# Altium footprint library CAP_CAN_TH_1p5mmLS4mmD.PcbLib: 1 footprints
Each footprint in its own frame and in the unit in brackets; x right, y up, seen from the top. Pads: shape width x height; smd on the part's side, far side on the other; paste and mask are expansions set on the pad; w line width, h text height; cw(c..) or ccw(c..) is an arc to the next point about the centre after c.
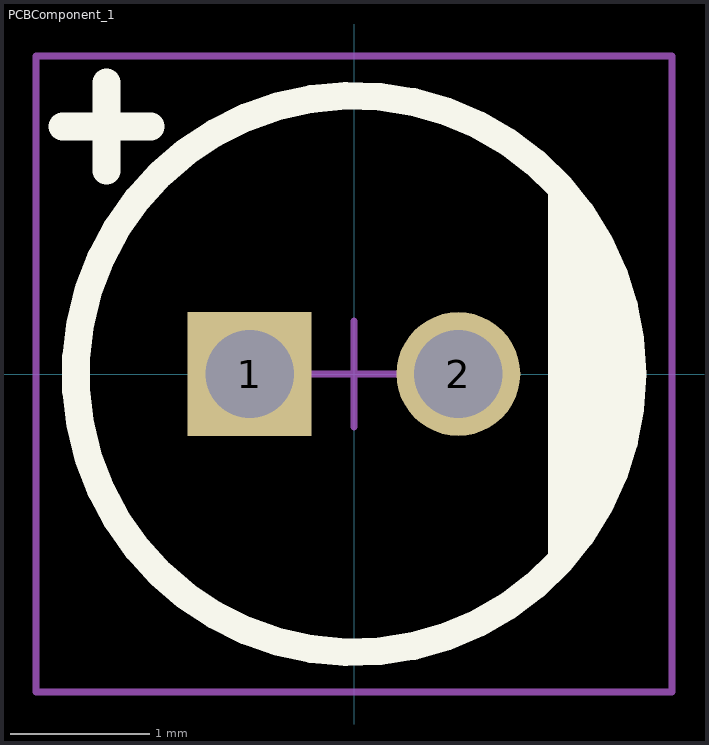
[diagram p0: the footprint, top view; thin cyan lines are the x and y axes]

## PCBComponent_1 [mil]
pads (2):
  rect 35x35 hole 25: 1(-29.53,0)
  round 35 hole 25: 2(29.53,0)
Top Overlay:
  circle w7.87: c0,0 r78.74
  region: 55,55 56.89,53.62 66.33,42.13 73.33,29.02 77.65,14.79 79.11,0 77.65,-14.79 73.33,-29.02 66.33,-42.13 56.89,-53.62 56.64,-53.36 55,-55
  lines w7.87: -82.5,70 -57.5,70 ; -70,57.5 -70,82.5
Mechanical 15:
  lines w1.97: -15,0 15,0 ; 0,-15 0,15 ; -90,-90 -90,90 90,90 90,-90 -90,-90